# Altium footprint library BSR NODE_V2.0 LIB.PcbLib: 41 footprints (part 3 of 3)
Each footprint in its own frame and in the unit in brackets; x right, y up, seen from the top. Pads: shape width x height; smd on the part's side, far side on the other; paste and mask are expansions set on the pad; w line width, h text height; cw(c..) or ccw(c..) is an arc to the next point about the centre after c.
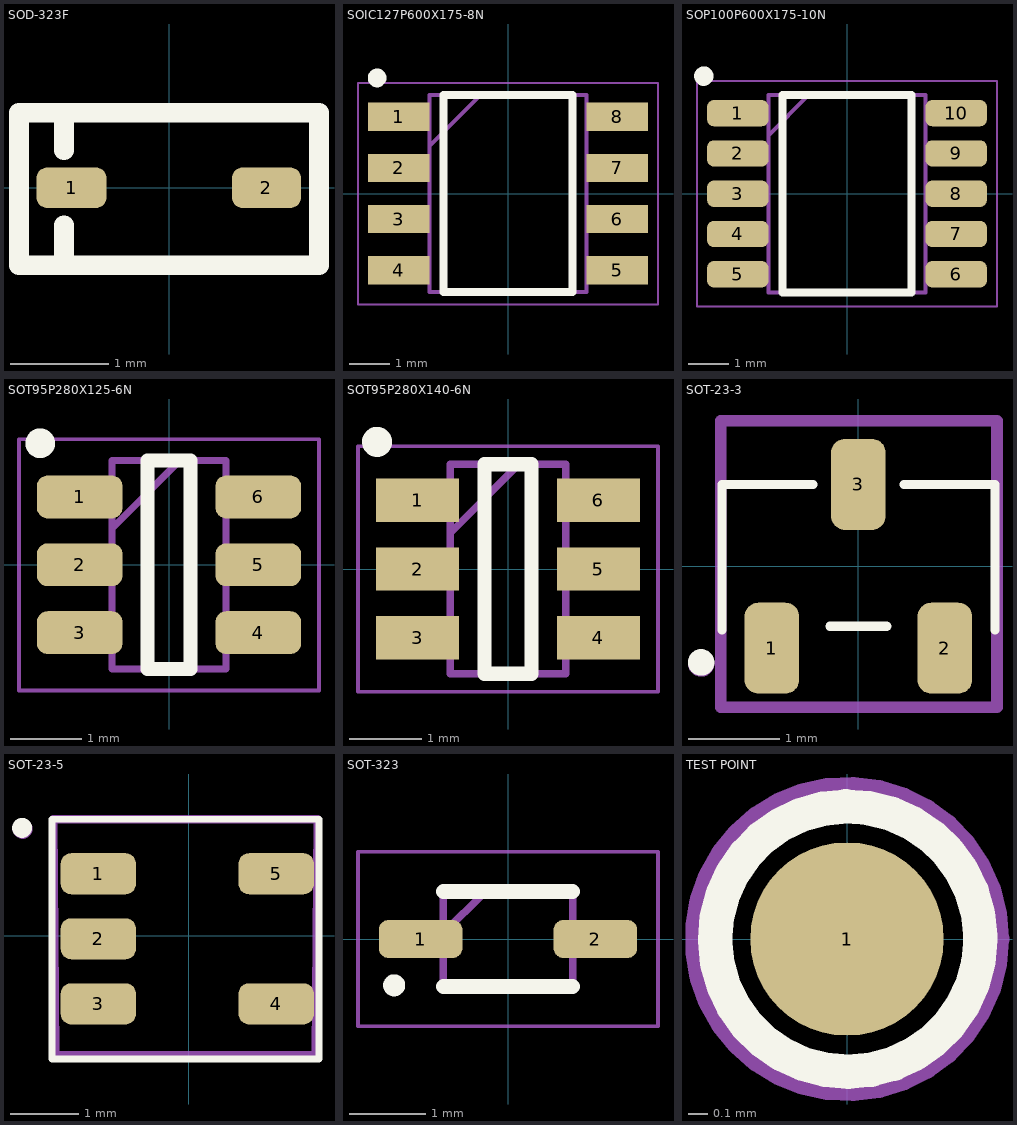
[diagram p2: the footprints below, top view; thin cyan lines are the x and y axes]

## SOD-323F [mm]
pads (2):
  rrect50% 0.71x0.41 smd mask+0.05: 1(-0.99,0)
  rrect50% 0.7x0.41 smd mask+0.05: 2(0.99,0)
Top Overlay:
  lines w0.2: -1.168,-0.787 1.524,-0.787 1.524,-0.381 1.524,0.381 1.524,0.762 -1.092,0.762 ; -1.067,-0.381 -1.067,-0.787 -1.524,-0.787 -1.524,0.762 -1.067,0.762 -1.067,0.381
Mechanical 15:
  lines w0.127: -1.168,-0.787 1.524,-0.787 1.524,-0.381 1.524,0.381 1.524,0.762 -1.092,0.762 ; -1.067,-0.787 -1.524,-0.787 -1.524,0.762 -1.067,0.762
  text "'.Designator'" at -0.457,-0.178 h0.38
3D body: height 0.6, standoff 0, extent -0.85,-0.625 0.85,0.625

## SOIC127P600X175-8N [mm]
pads (8):
  rect 1.525x0.7 smd: 1(-2.712,1.905) 2(-2.712,0.635) 3(-2.712,-0.635) 4(-2.712,-1.905) 5(2.712,-1.905) 6(2.712,-0.635) 7(2.712,0.635) 8(2.712,1.905)
Top Overlay:
  circle w0.254: c-3.251,2.87 r0.105
  lines w0.2: -1.6,-2.45 -1.6,2.45 1.6,2.45 1.6,-2.45 -1.6,-2.45
Mechanical 13:
  lines w0.1: -1.95,1.18 -0.68,2.45 ; -1.95,-2.45 -1.95,2.45 1.95,2.45 1.95,-2.45 -1.95,-2.45
Mechanical 15:
  lines w0.05: -3.725,-2.75 -3.725,2.75 3.725,2.75 3.725,-2.75 -3.725,-2.75
3D body "FDS4435BZ.stp": height 1.75, standoff 0, extent -3,-2.45 3,2.45

## SOP100P600X175-10N [mm]
pads (10):
  rrect50% 1.525x0.65 smd: 1(-2.712,2) 2(-2.712,1) 3(-2.712,0) 4(-2.712,-1) 5(-2.712,-2) 6(2.712,-2) 7(2.712,-1) 8(2.712,0) 9(2.712,1) 10(2.712,2)
Top Overlay:
  circle w0.254: c-3.556,2.921 r0.114
  lines w0.2: -1.6,-2.45 1.6,-2.45 1.6,2.45 -1.6,2.45 -1.6,-2.45
Mechanical 13:
  lines w0.1: -1.95,1.45 -0.95,2.45 ; -1.95,-2.45 1.95,-2.45 1.95,2.45 -1.95,2.45 -1.95,-2.45
Mechanical 15:
  lines w0.05: -3.725,-2.8 3.725,-2.8 3.725,2.8 -3.725,2.8 -3.725,-2.8
3D body "CN3791.stp": height 1.75, standoff 0, extent -3,-2.45 3,2.45

## SOT95P280X125-6N [mm]
pads (6):
  rrect50% 1.2x0.6 smd: 1(-1.25,0.95) 2(-1.25,0) 3(-1.25,-0.95) 4(1.25,-0.95) 5(1.25,0) 6(1.25,0.95)
Top Overlay:
  lines w0.2: -0.3,-1.46 -0.3,1.46 0.3,1.46 0.3,-1.46 -0.3,-1.46
  lines w0.254: -1.726,1.68 cw(c-1.803,1.702) -1.723,1.702
Mechanical 13:
  lines w0.1: -0.8,0.51 0.15,1.46 ; -0.8,-1.46 -0.8,1.46 0.8,1.46 0.8,-1.46 -0.8,-1.46
Mechanical 15:
  lines w0.05: -2.1,-1.76 -2.1,1.76 2.1,1.76 2.1,-1.76 -2.1,-1.76
3D body "FS8205A.stp": height 1.25, standoff 0, extent -1.4,-1.46 1.4,1.46

## SOT95P280X140-6N [mm]
pads (6):
  rect 1.15x0.6 smd: 1(-1.25,0.95) 2(-1.25,0) 3(-1.25,-0.95) 4(1.25,-0.95) 5(1.25,0) 6(1.25,0.95)
Top Overlay:
  lines w0.2: -0.325,-1.45 -0.325,1.45 0.325,1.45 0.325,-1.45 -0.325,-1.45
  lines w0.254: -1.734,1.737 cw(c-1.811,1.759) -1.731,1.759
Mechanical 13:
  lines w0.1: -0.8,0.5 0.15,1.45 ; -0.8,-1.45 -0.8,1.45 0.8,1.45 0.8,-1.45 -0.8,-1.45
Mechanical 15:
  lines w0.05: -2.075,-1.7 -2.075,1.7 2.075,1.7 2.075,-1.7 -2.075,-1.7
3D body "HY2112.stp": height 1.4, standoff 0, extent -1.4,-1.45 1.4,1.45

## SOT-23-3 [mm]
pads (3):
  rrect50% 0.6x1 smd: 1(-0.95,-0.9) 2(0.95,-0.9) 3(0,0.9)
Top Overlay:
  circle w0.2: c-1.728,-1.056 r0.045
  lines w0.1: -1.5,-0.7 -1.5,0.9 -0.5,0.9 ; -0.312,-0.659 0.312,-0.659 ; 0.5,0.9 1.5,0.9 1.5,-0.7
Mechanical 15:
  circle w0.2: c-1.727,-1.067 r0.045
  lines w0.127: -1.512,-1.549 -1.512,1.6 1.524,1.6 1.524,-1.549 -1.512,-1.549
  text "'.Designator'" at -1.09,-0.359 h0.38
3D body "SOT-23.stp": height 1, standoff 0, extent -1.5,-1.333 1.5,1.217

## SOT-23-5 [mm]
pads (5):
  rrect50% 1.1x0.6 smd: 1(-1.324,0.904) 2(-1.324,-0.046) 3(-1.324,-0.996) 4(1.276,-0.996) 5(1.276,0.904)
Top Overlay:
  circle w0.2: c-2.438,1.575 r0.045
  lines w0.1: -2,-1.8 1.9,-1.8 1.9,1.7 -2,1.7 -2,-1.8
Mechanical 15:
  lines w0.127: -1.981,1.702 -1.956,-1.753 1.854,-1.753 1.88,1.702 -1.981,1.702
  lines w0.2: -2.388,1.575 ccw(c-2.43,1.56) -2.385,1.56
  text "'.Designator'" at -2.044,-1.062 h0.38
3D body "IC_Texas_Instruments_LM321LVIDBVR_eec.STEP": height 0.25, standoff 0, extent -1.974,-1.821 1.926,1.729

## SOT-323 [mm]
pads (2):
  rrect50% 1.1x0.5 smd: 1(-1.15,0) 2(1.15,0)
Top Overlay:
  circle w0.2: c-1.499,-0.61 r0.045
  lines w0.2: -0.85,-0.625 0.85,-0.625 ; -0.85,0.625 0.85,0.625
Mechanical 13:
  lines w0.1: -0.85,0.075 -0.3,0.625 ; -0.85,-0.625 -0.85,0.625 0.85,0.625 0.85,-0.625 -0.85,-0.625
Mechanical 15:
  lines w0.05: -1.975,-1.15 -1.975,1.15 1.975,1.15 1.975,-1.15 -1.975,-1.15
  text "'.Designator'" at -0.541,-0.158 h0.38
3D body "BAT60B.stp": height 1.15, standoff 0, extent -1.25,-0.625 1.25,0.625

## TEST POINT [mm]
pads (1):
  round 1 smd: 1(0,0)
Top Overlay:
  lines w0.178: 0.69,0 cw(c0.004,0) 0.69,0.012
Mechanical 15:
  circle w0.127: c0,0 r0.775
  text "'.Designator'" at -0.559,-0.127 h0.38